# Altium footprint library RN112.PcbLib: 1 footprints
Each footprint in its own frame and in the unit in brackets; x right, y up, seen from the top. Pads: shape width x height; smd on the part's side, far side on the other; paste and mask are expansions set on the pad; w line width, h text height; cw(c..) or ccw(c..) is an arc to the next point about the centre after c.
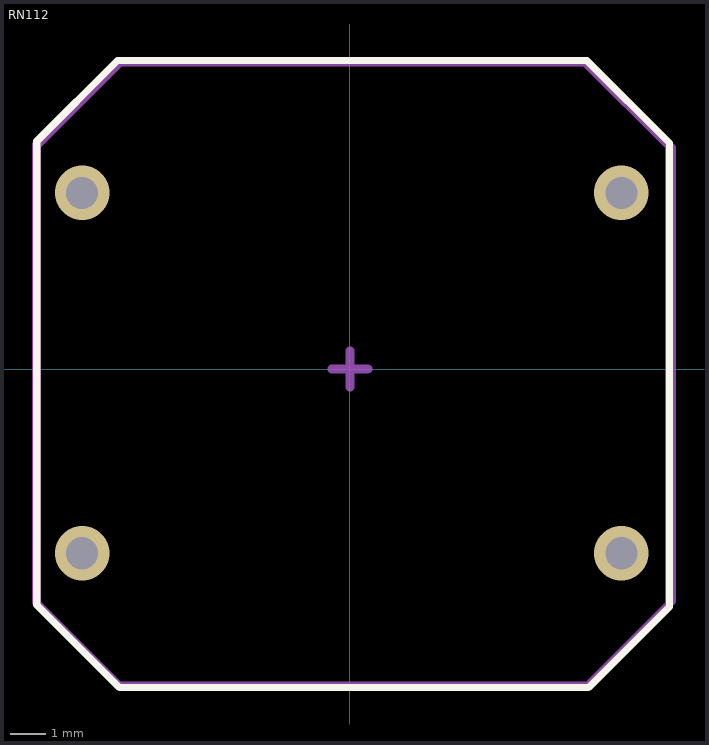
[diagram p0: the footprint, top view; thin cyan lines are the x and y axes]

## RN112 [mm]
via 7.595,4.928 diameter 1.524 hole 0.9
via 7.595,-5.156 diameter 1.524 hole 0.9
via -7.493,-5.156 diameter 1.524 hole 0.9
via -7.493,4.928 diameter 1.524 hole 0.9
Top Overlay:
  lines w0.2: -8.763,6.325 -8.763,5.41 -8.763,-4.699 -8.763,-6.121 -8.763,-6.452 -8.763,-6.604 -6.452,-8.915 6.299,-8.915 6.68,-8.915 8.941,-6.655 8.941,-6.629 ; -8.763,6.35 -8.763,6.375 -6.502,8.636 -6.121,8.636 6.629,8.636 8.941,6.325 8.941,6.172 8.941,5.842 8.941,4.42 8.941,-5.69 8.941,-6.604
Mechanical 13:
  lines w0.2: -8.738,-6.553 -8.738,6.325 -6.477,8.585 6.553,8.585 8.915,6.223 8.915,-6.579 6.655,-8.839 -6.452,-8.839 -8.738,-6.553
Mechanical 15:
  lines w0.2: -8.788,6.299 -8.788,-6.528 -6.426,-8.89 6.629,-8.89 9.017,-6.502 9.017,6.198 6.655,8.56 -6.426,8.56 -8.687,6.299
  lines w0.254: -0.5,0 0.5,0 ; 0,-0.5 0,0.5
  text "1" at -6.096,-6.604 h1.52
  text "3" at -6.096,4.064 h1.52
  text "4" at 5.588,4.064 h1.52
  text "2" at 5.588,-6.096 h1.52
Mechanical 17:
  text "'.Designator'" at -3.556,0.508 h0.76
Mechanical 19:
  text "'.Comment'" at -3.048,-1.016 h0.76
3D body "36012.stp": height 12.5, standoff -4.1, extent -8.759,-8.865 8.941,8.636